# EAGLE library part RHP-44+ (library filter-minicircuits)
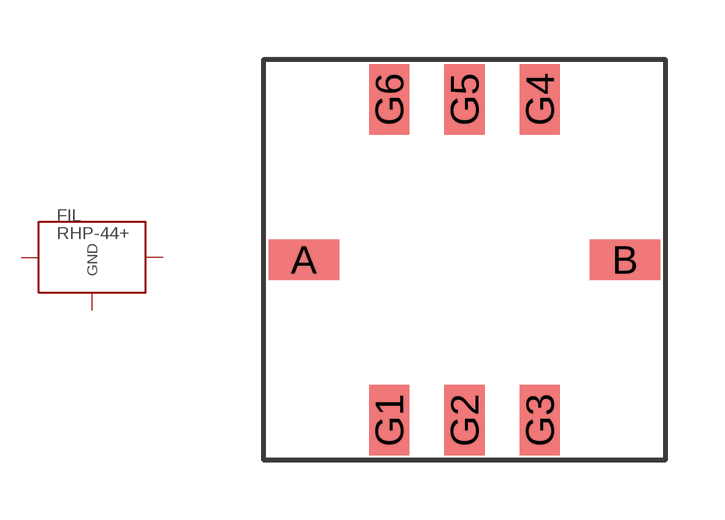
[diagram p0: symbol with the pads of FILTER-SMD; footprint FILTER-SMD]

Designator prefix FIL

## RHP-44+  [FILTER-SMD]
A  A
B  B
G1  GND
G2  GND1
G3  GND2
G4  GND3
G5  GND4
G6  GND5

## Footprint FILTER-SMD (pad centres in mm)
smd 1.778 x 1.016: A -4.064,0; B 4.064,0
smd 1.016 x 1.778: G1 -1.905,-4.064; G2 0,-4.064; G3 1.905,-4.064; G4 1.905,4.064; G5 0,4.064; G6 -1.905,4.064